# Altium footprint library Tri.PcbLib: 66 footprints (part 4 of 5)
Each footprint in its own frame and in the unit in brackets; x right, y up, seen from the top. Pads: shape width x height; smd on the part's side, far side on the other; paste and mask are expansions set on the pad; w line width, h text height; cw(c..) or ccw(c..) is an arc to the next point about the centre after c.
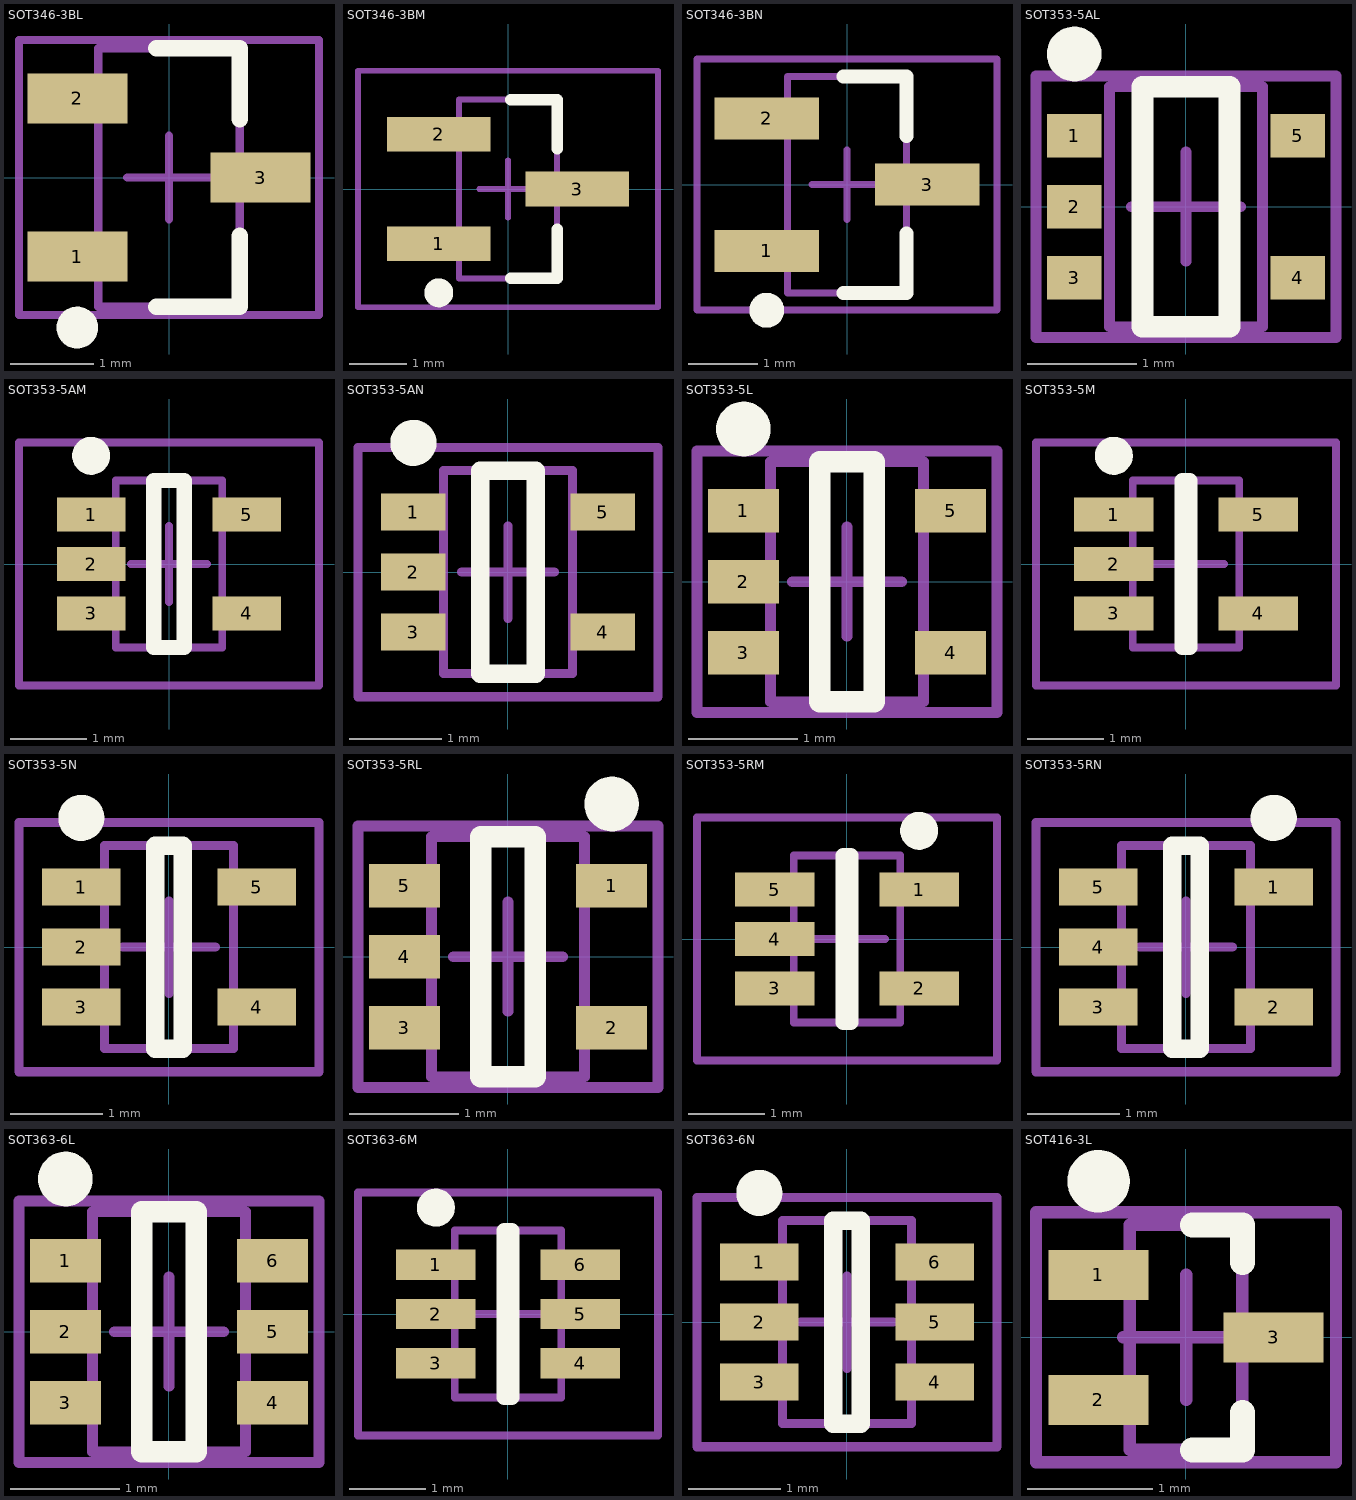
[diagram p3: the footprints below, top view; thin cyan lines are the x and y axes]

## SOT346-3BL [mm] "SOT346, 3-Leads, Body 2.9x1.5mm, Pitch 0.95mm, Lead Span 2.8mm - Alternate Lead Configuration, IPC High Density"
height 1.3
pads (3):
  rect 1.2x0.6 smd: 1(-1.1,-0.95) 2(-1.1,0.95) 3(1.1,0)
Top Overlay:
  circle w0.25: c-1.1,-1.8 r0.125
  lines w0.2: -0.15,-1.55 0.85,-1.55 0.85,-0.7 ; -0.15,1.55 0.85,1.55 0.85,0.7
Mechanical 13:
  lines w0.1: -0.85,-1.55 0.85,-1.55 0.85,1.55 -0.85,1.55 -0.85,-1.55
Mechanical 15:
  lines w0.1: -0.5,0 0.5,0 ; 0,-0.5 0,0.5 ; -1.8,-1.65 1.8,-1.65 1.8,1.65 -1.8,1.65 -1.8,-1.65
3D body: height 1.3, standoff 0, extent -0.85,-1.55 0.85,1.55

## SOT346-3BM [mm] "SOT346, 3-Leads, Body 2.9x1.5mm, Pitch 0.95mm, Lead Span 2.8mm - Alternate Lead Configuration, IPC Low Density"
height 1.3
pads (3):
  rect 1.8x0.6 smd: 1(-1.2,-0.95) 2(-1.2,0.95) 3(1.2,0)
Top Overlay:
  circle w0.25: c-1.2,-1.8 r0.125
  lines w0.2: 0.05,-1.55 0.85,-1.55 0.85,-0.7 ; 0.05,1.55 0.85,1.55 0.85,0.7
Mechanical 13:
  lines w0.1: -0.85,-1.55 0.85,-1.55 0.85,1.55 -0.85,1.55 -0.85,-1.55
Mechanical 15:
  lines w0.1: -0.5,0 0.5,0 ; 0,-0.5 0,0.5 ; -2.6,-2.05 2.6,-2.05 2.6,2.05 -2.6,2.05 -2.6,-2.05
3D body: height 1.3, standoff 0, extent -0.85,-1.55 0.85,1.55

## SOT346-3BN [mm] "SOT346, 3-Leads, Body 2.9x1.5mm, Pitch 0.95mm, Lead Span 2.8mm - Alternate Lead Configuration, IPC Medium Density"
height 1.3
pads (3):
  rect 1.5x0.6 smd: 1(-1.15,-0.95) 2(-1.15,0.95) 3(1.15,0)
Top Overlay:
  circle w0.25: c-1.15,-1.8 r0.125
  lines w0.2: -0.05,-1.55 0.85,-1.55 0.85,-0.7 ; -0.05,1.55 0.85,1.55 0.85,0.7
Mechanical 13:
  lines w0.1: -0.85,-1.55 0.85,-1.55 0.85,1.55 -0.85,1.55 -0.85,-1.55
Mechanical 15:
  lines w0.1: -0.5,0 0.5,0 ; 0,-0.5 0,0.5 ; -2.15,-1.8 2.15,-1.8 2.15,1.8 -2.15,1.8 -2.15,-1.8
3D body: height 1.3, standoff 0, extent -0.85,-1.55 0.85,1.55

## SOT353-5AL [mm] "SOT353, 5-Leads, Body 2x1.3mm, Pitch 0.65mm, Lead Span 2.1mm, IPC High Density"
height 1.1
pads (5):
  rect 0.5x0.4 smd: 1(-1.025,0.65) 2(-1.025,0) 3(-1.025,-0.65) 4(1.025,-0.65) 5(1.025,0.65)
Top Overlay:
  circle w0.25: c-1.025,1.4 r0.125
  lines w0.2: -0.4,-1.1 0.4,-1.1 0.4,1.1 -0.4,1.1 -0.4,-1.1
Mechanical 13:
  lines w0.1: -0.7,-1.1 -0.7,1.1 0.7,1.1 0.7,-1.1 -0.7,-1.1
Mechanical 15:
  lines w0.1: -0.5,0 0.5,0 ; 0,-0.5 0,0.5 ; -1.375,-1.2 -1.375,1.2 1.375,1.2 1.375,-1.2 -1.375,-1.2
3D body: height 1.1, standoff 0, extent -0.7,-1.1 0.7,1.1

## SOT353-5AM [mm]
pads (5):
  rect 0.9x0.45 smd: 1(-1.025,0.65) 2(-1.025,0) 3(-1.025,-0.65) 4(1.025,-0.65) 5(1.025,0.65)
Top Overlay:
  circle w0.25: c-1.025,1.425 r0.125
  lines w0.2: -0.2,-1.1 0.2,-1.1 0.2,1.1 -0.2,1.1 -0.2,-1.1
Mechanical 13:
  lines w0.1: -0.7,-1.1 -0.7,1.1 0.7,1.1 0.7,-1.1 -0.7,-1.1
Mechanical 15:
  lines w0.1: -0.5,0 0.5,0 ; 0,-0.5 0,0.5 ; -1.975,-1.6 -1.975,1.6 1.975,1.6 1.975,-1.6 -1.975,-1.6
3D body: height 0, standoff 0, extent -0.7,-1.1 0.7,1.1

## SOT353-5AN [mm] "SOT353, 5-Leads, Body 2x1.3mm, Pitch 0.65mm, Lead Span 2.1mm, IPC Medium Density"
height 1.1
pads (5):
  rect 0.7x0.4 smd: 1(-1.025,0.65) 2(-1.025,0) 3(-1.025,-0.65) 4(1.025,-0.65) 5(1.025,0.65)
Top Overlay:
  circle w0.25: c-1.025,1.4 r0.125
  lines w0.2: -0.3,-1.1 0.3,-1.1 0.3,1.1 -0.3,1.1 -0.3,-1.1
Mechanical 13:
  lines w0.1: -0.7,-1.1 -0.7,1.1 0.7,1.1 0.7,-1.1 -0.7,-1.1
Mechanical 15:
  lines w0.1: -0.5,0 0.5,0 ; 0,-0.5 0,0.5 ; -1.625,-1.35 -1.625,1.35 1.625,1.35 1.625,-1.35 -1.625,-1.35
3D body: height 1.1, standoff 0, extent -0.7,-1.1 0.7,1.1

## SOT353-5L [mm] "SOT353, 5-Leads, Body 2x1.3mm, Pitch 0.65mm, Lead Span 2.1mm, IPC High Density"
height 1.1
pads (5):
  rect 0.65x0.4 smd: 1(-0.95,0.65) 2(-0.95,0) 3(-0.95,-0.65) 4(0.95,-0.65) 5(0.95,0.65)
Top Overlay:
  circle w0.25: c-0.95,1.4 r0.125
  lines w0.2: -0.25,-1.1 0.25,-1.1 0.25,1.1 -0.25,1.1 -0.25,-1.1
Mechanical 13:
  lines w0.1: -0.7,-1.1 -0.7,1.1 0.7,1.1 0.7,-1.1 -0.7,-1.1
Mechanical 15:
  lines w0.1: -0.5,0 0.5,0 ; 0,-0.5 0,0.5 ; -1.375,-1.2 -1.375,1.2 1.375,1.2 1.375,-1.2 -1.375,-1.2
3D body: height 1.1, standoff 0, extent -0.7,-1.1 0.7,1.1

## SOT353-5M [mm]
pads (5):
  rect 1.05x0.45 smd: 1(-0.95,0.65) 2(-0.95,0) 3(-0.95,-0.65) 4(0.95,-0.65) 5(0.95,0.65)
Top Overlay:
  circle w0.25: c-0.95,1.425 r0.125
  lines w0.2: -0.05,-1.1 0.05,-1.1 0.05,1.1 -0.05,1.1 -0.05,-1.1
Mechanical 13:
  lines w0.1: -0.7,-1.1 -0.7,1.1 0.7,1.1 0.7,-1.1 -0.7,-1.1
Mechanical 15:
  lines w0.1: -0.5,0 0.5,0 ; 0,-0.5 0,0.5 ; -1.975,-1.6 -1.975,1.6 1.975,1.6 1.975,-1.6 -1.975,-1.6
3D body: height 0, standoff 0, extent -0.7,-1.1 0.7,1.1

## SOT353-5N [mm] "SOT353, 5-Leads, Body 2x1.3mm, Pitch 0.65mm, Lead Span 2.1mm, IPC Medium Density"
height 1.1
pads (5):
  rect 0.85x0.4 smd: 1(-0.95,0.65) 2(-0.95,0) 3(-0.95,-0.65) 4(0.95,-0.65) 5(0.95,0.65)
Top Overlay:
  circle w0.25: c-0.95,1.4 r0.125
  lines w0.2: -0.15,-1.1 -0.15,1.1 0.15,1.1 0.15,-1.1 -0.15,-1.1
Mechanical 13:
  lines w0.1: -0.7,-1.1 0.7,-1.1 0.7,1.1 -0.7,1.1 -0.7,-1.1
Mechanical 15:
  lines w0.1: -0.5,0 0.5,0 ; 0,-0.5 0,0.5 ; -1.625,-1.35 1.625,-1.35 1.625,1.35 -1.625,1.35 -1.625,-1.35
3D body: height 1.1, standoff 0, extent -0.7,-1.1 0.7,1.1

## SOT353-5RL [mm] "SOT353, 5-Leads, Body 2x1.3mm, Pitch 0.65mm, Lead Span 2.1mm - Reverse Pinning, IPC High Density"
height 1.1
pads (5):
  rect 0.65x0.4 smd: 1(0.95,0.65) 2(0.95,-0.65) 3(-0.95,-0.65) 4(-0.95,0) 5(-0.95,0.65)
Top Overlay:
  circle w0.25: c0.95,1.4 r0.125
  lines w0.2: -0.25,-1.1 -0.25,1.1 0.25,1.1 0.25,-1.1 -0.25,-1.1
Mechanical 13:
  lines w0.1: -0.7,-1.1 0.7,-1.1 0.7,1.1 -0.7,1.1 -0.7,-1.1
Mechanical 15:
  lines w0.1: -0.5,0 0.5,0 ; 0,-0.5 0,0.5 ; -1.375,-1.2 1.375,-1.2 1.375,1.2 -1.375,1.2 -1.375,-1.2
3D body: height 1.1, standoff 0, extent -0.7,-1.1 0.7,1.1

## SOT353-5RM [mm]
pads (5):
  rect 1.05x0.45 smd: 1(0.95,0.65) 2(0.95,-0.65) 3(-0.95,-0.65) 4(-0.95,0) 5(-0.95,0.65)
Top Overlay:
  circle w0.25: c0.95,1.425 r0.125
  lines w0.2: -0.05,-1.1 -0.05,1.1 0.05,1.1 0.05,-1.1 -0.05,-1.1
Mechanical 13:
  lines w0.1: -0.7,-1.1 0.7,-1.1 0.7,1.1 -0.7,1.1 -0.7,-1.1
Mechanical 15:
  lines w0.1: -0.5,0 0.5,0 ; 0,-0.5 0,0.5 ; -1.975,-1.6 1.975,-1.6 1.975,1.6 -1.975,1.6 -1.975,-1.6
3D body: height 0, standoff 0, extent -0.7,-1.1 0.7,1.1

## SOT353-5RN [mm] "SOT353, 5-Leads, Body 2x1.3mm, Pitch 0.65mm, Lead Span 2.1mm - Reverse Pinning, IPC Medium Density"
height 1.1
pads (5):
  rect 0.85x0.4 smd: 1(0.95,0.65) 2(0.95,-0.65) 3(-0.95,-0.65) 4(-0.95,0) 5(-0.95,0.65)
Top Overlay:
  circle w0.25: c0.95,1.4 r0.125
  lines w0.2: -0.15,-1.1 -0.15,1.1 0.15,1.1 0.15,-1.1 -0.15,-1.1
Mechanical 13:
  lines w0.1: -0.7,-1.1 0.7,-1.1 0.7,1.1 -0.7,1.1 -0.7,-1.1
Mechanical 15:
  lines w0.1: -0.5,0 0.5,0 ; 0,-0.5 0,0.5 ; -1.625,-1.35 1.625,-1.35 1.625,1.35 -1.625,1.35 -1.625,-1.35
3D body: height 1.1, standoff 0, extent -0.7,-1.1 0.7,1.1

## SOT363-6L [mm] "SOT363, 6-Leads, Body 2x1.3mm, Pitch 0.65mm, Lead Span 2.1mm, IPC High Density"
height 1
pads (6):
  rect 0.65x0.4 smd: 1(-0.95,0.65) 2(-0.95,0) 3(-0.95,-0.65) 4(0.95,-0.65) 5(0.95,0) 6(0.95,0.65)
Top Overlay:
  circle w0.25: c-0.95,1.4 r0.125
  lines w0.2: -0.25,-1.1 0.25,-1.1 0.25,1.1 -0.25,1.1 -0.25,-1.1
Mechanical 13:
  lines w0.1: -0.7,-1.1 -0.7,1.1 0.7,1.1 0.7,-1.1 -0.7,-1.1
Mechanical 15:
  lines w0.1: -0.5,0 0.5,0 ; 0,-0.5 0,0.5 ; -1.375,-1.2 -1.375,1.2 1.375,1.2 1.375,-1.2 -1.375,-1.2
3D body: height 1, standoff 0, extent -0.7,-1.1 0.7,1.1

## SOT363-6M [mm]
pads (6):
  rect 1.05x0.4 smd: 1(-0.95,0.65) 2(-0.95,0) 3(-0.95,-0.65) 4(0.95,-0.65) 5(0.95,0) 6(0.95,0.65)
Top Overlay:
  circle w0.25: c-0.95,1.4 r0.125
  lines w0.2: -0.05,-1.1 0.05,-1.1 0.05,1.1 -0.05,1.1 -0.05,-1.1
Mechanical 13:
  lines w0.1: -0.7,-1.1 -0.7,1.1 0.7,1.1 0.7,-1.1 -0.7,-1.1
Mechanical 15:
  lines w0.1: -0.5,0 0.5,0 ; 0,-0.5 0,0.5 ; -1.975,-1.6 -1.975,1.6 1.975,1.6 1.975,-1.6 -1.975,-1.6
3D body: height 0, standoff 0, extent -0.7,-1.1 0.7,1.1

## SOT363-6N [mm] "SOT363, 6-Leads, Body 2x1.3mm, Pitch 0.65mm, Lead Span 2.1mm, IPC Medium Density"
height 1
pads (6):
  rect 0.85x0.4 smd: 1(-0.95,0.65) 2(-0.95,0) 3(-0.95,-0.65) 4(0.95,-0.65) 5(0.95,0) 6(0.95,0.65)
Top Overlay:
  circle w0.25: c-0.95,1.4 r0.125
  lines w0.2: -0.15,-1.1 0.15,-1.1 0.15,1.1 -0.15,1.1 -0.15,-1.1
Mechanical 13:
  lines w0.1: -0.7,-1.1 -0.7,1.1 0.7,1.1 0.7,-1.1 -0.7,-1.1
Mechanical 15:
  lines w0.1: -0.5,0 0.5,0 ; 0,-0.5 0,0.5 ; -1.625,-1.35 -1.625,1.35 1.625,1.35 1.625,-1.35 -1.625,-1.35
3D body: height 1, standoff 0, extent -0.7,-1.1 0.7,1.1

## SOT416-3L [mm] "SOT416, 3-Leads, Body 1.6x0.8mm, Pitch 0.50mm, Lead Span 1.6mm, IPC High Density"
height 0.95
pads (3):
  rect 0.8x0.4 smd: 1(-0.7,0.5) 2(-0.7,-0.5) 3(0.7,0)
Top Overlay:
  circle w0.25: c-0.7,1.25 r0.125
  lines w0.2: 0.05,-0.9 0.45,-0.9 0.45,-0.6 ; 0.05,0.9 0.45,0.9 0.45,0.6
Mechanical 13:
  lines w0.1: -0.45,-0.9 0.45,-0.9 0.45,0.9 -0.45,0.9 -0.45,-0.9
Mechanical 15:
  lines w0.1: -0.5,0 0.5,0 ; 0,-0.5 0,0.5 ; -1.2,-1 1.2,-1 1.2,1 -1.2,1 -1.2,-1
3D body: height 0.95, standoff 0, extent -0.45,-0.9 0.45,0.9